# Altium footprint library Conectors.PcbLib: 137 footprints (part 9 of 9)
Each footprint in its own frame and in the unit in brackets; x right, y up, seen from the top. Pads: shape width x height; smd on the part's side, far side on the other; paste and mask are expansions set on the pad; w line width, h text height; cw(c..) or ccw(c..) is an arc to the next point about the centre after c.
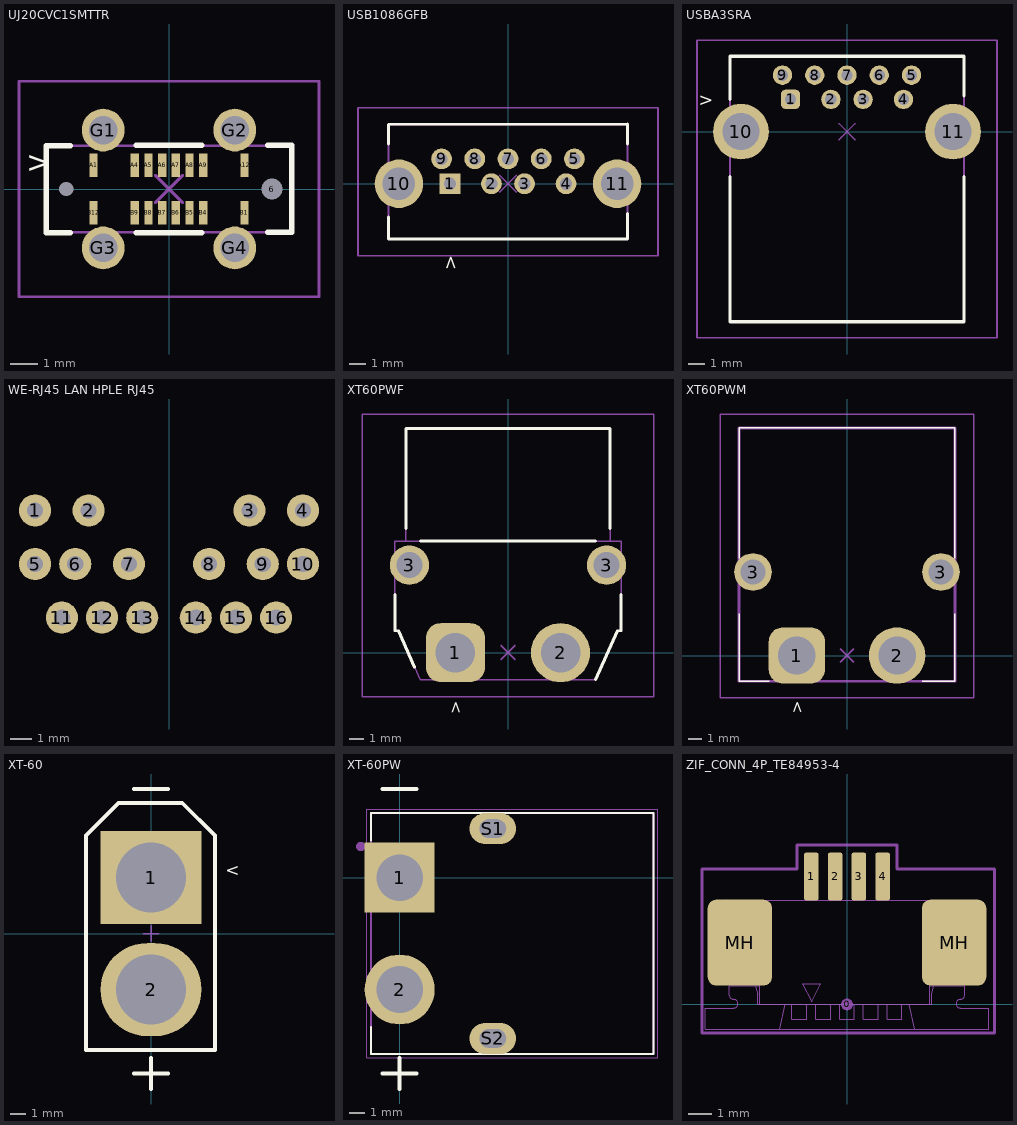
[diagram p8: the footprints below, top view; thin cyan lines are the x and y axes]

## UJ20CVC1SMTTR [mm]
pads (22):
  round 0.26 hole 0.52 unplated: 5(-3.75,0)
  round 0.385 hole 0.77 unplated: 6(3.75,0)
  rect 0.3x0.87 smd: A1(-2.75,0.865) A4(-1.25,0.865) A5(-0.75,0.865) A6(-0.25,0.865) A7(0.25,0.865) A8(0.75,0.865) A9(1.25,0.865) A12(2.75,0.865) B1(2.75,-0.865) B4(1.25,-0.865) B5(0.75,-0.865) B6(0.25,-0.865) B7(-0.25,-0.865) B8(-0.75,-0.865) B9(-1.25,-0.865) B12(-2.75,-0.865)
  round 1.56 hole 1.04: G1(-2.4,2.15) G2(2.4,2.15) G3(-2.4,-2.15) G4(2.4,-2.15)
Top Overlay:
  lines w0.2: -3.6,-1.6 -4.47,-1.6 -4.47,1.58 -3.6,1.58 ; -1.2,-1.6 1.2,-1.6 ; -1.2,1.6 1.2,1.6 ; 3.6,-1.58 4.47,-1.58 4.47,1.6 3.6,1.6
  text ".Silk" at -2.167,4.073 h3
  text ">" at -5.2,0.6 h0.8
Mechanical 13:
  lines w0.1: -4.47,-1.58 -4.47,1.58 4.47,1.58 4.47,-1.58 -4.47,-1.58
Mechanical 15:
  lines w0.1: -0.5,-0.5 0.5,0.5 ; -0.5,0.5 0.5,-0.5 ; -5.47,-3.93 -5.47,3.93 5.47,3.93 5.47,-3.93 -5.47,-3.93
3D body "UJ20-C-V-C-1-SMT-TR.stp": height 6.5, standoff -0.95, extent -4.47,-2.3 4.47,2.3

## USB1086GFB [mm]
pads (11):
  rect 1.251x1.251 hole 0.73: 1(-3.5,0)
  round 1.251 hole 0.73: 2(-1,0) 3(1,0) 4(3.5,0) 5(4,1.5) 6(2,1.5) 7(0,1.5) 8(-2,1.5) 9(-4,1.5)
  round 2.925 hole 1.95: 10(-6.57,0) 11(6.57,0)
Top Overlay:
  lines w0.2: -7.2,-2 -7.2,-3.33 7.2,-3.33 7.2,-1.8 ; -7.2,2.4 -7.2,3.57 7.2,3.6 7.2,2.4
  text ".Silk" at -1.667,-5.927 h3
  text ">" at -3.1,-5.2 h0.8
Mechanical 13:
  lines w0.1: -7.2,-3.33 -7.2,3.57 7.2,3.57 7.2,-3.33 -7.2,-3.33
Mechanical 15:
  lines w0.1: -0.5,-0.5 0.5,0.5 ; -0.5,0.5 0.5,-0.5 ; -9.033,-4.33 -9.033,4.57 9.033,4.57 9.033,-4.33 -9.033,-4.33
3D body "USB1086-GF-B.stp": height 14.9, standoff -4, extent -7.65,-3.33 7.65,3.57

## USBA3SRA [mm]
pads (11):
  rrect50% 1.2x1.2 hole 0.7: 1(-3.5,2)
  round 1.2 hole 0.7: 2(-1,2) 3(1,2) 4(3.5,2) 5(4,3.5) 6(2,3.5) 7(0,3.5) 8(-2,3.5) 9(-4,3.5)
  round 3.45 hole 2.3: 10(-6.57,0) 11(6.57,0)
Top Overlay:
  lines w0.2: -7.25,-2.78 -7.25,-11.78 7.25,-11.78 7.25,-2.78 ; -7.25,2 -7.25,4.67 7.25,4.67 7.25,2.22
  text ".Silk" at 2.167,8.627 h3
  text ">" at -9.2,1.6 h0.8
Mechanical 13:
  lines w0.1: -7.25,-11.78 7.25,-11.78 7.25,4.67 -7.25,4.67 -7.25,-11.78
Mechanical 15:
  lines w0.1: -0.5,-0.5 0.5,0.5 ; -0.5,0.5 0.5,-0.5 ; -9.295,-12.78 9.295,-12.78 9.295,5.67 -9.295,5.67 -9.295,-12.78
3D body "USB-A3-S-RA.stp": height 7.66, standoff -3.26, extent -7.8,-11.78 7.8,4.67

## WE-RJ45 LAN HPLE RJ45 [mil] "WE-RJ45 LAN HPLE RJ45 LAN Transformer"
pads (16):
  round 60 hole 30: 1(-250,575) 2(-150,575) 3(150,575) 4(250,575) 5(-250,475) 6(-175,475) 7(-75,475) 8(75,475) 9(175,475) 10(250,475) 11(-200,375) 12(-125,375) 13(-50,375) 14(50,375) 15(125,375) 16(200,375)
3D body "User Library-WE-RJ45 LAN HPLE RJ45 LAN Transformer_799111614_WurthElektronik.step": height 586.61, standoff -157.48, extent -391.14,-650 391.14,650

## XT60PWF [mm]
pads (4):
  rrect50% 4.05x4.05 hole 2.7: 1(-3.6,0)
  round 4.05 hole 2.7: 2(3.6,0)
  round 2.7 hole 1.8: 3(-6.75,6) 3(6.75,6)
Top Overlay:
  lines w0.2: -7.75,4 -7.75,1.5 -7.5,1.5 -6.4,-1 ; -7,8.5 -7,15.35 7,15.35 7,8.5 ; -6,7.65 6,7.65 ; 6,-1.85 7.5,1.5 7.75,1.5 7.75,4
  text ">" at -3.2,-4.2 h0.8
  text ".Silk" at -2.167,-5.127 h3
Mechanical 13:
  lines w0.1: -7,7.65 -7,15.35 7,15.35 7,7.65 ; -7.75,1.5 -7.75,7.65 7.75,7.65 7.75,5 7.75,3.5 7.75,1.5 7.5,1.5 6,-1.85 1,-1.85 -6,-1.85 -7.5,1.5 -7.75,1.5
Mechanical 15:
  lines w0.1: -0.5,-0.5 0.5,0.5 ; -0.5,0.5 0.5,-0.5 ; -10,-3.025 -10,16.35 10,16.35 10,-3.025 -10,-3.025
3D body "XT60PW-F.stp": height 8.37, standoff -2.58, extent -7.75,-1.94 7.75,15.26

## XT60PWM [mm]
pads (4):
  rrect50% 4.05x4.05 hole 2.7: 1(-3.6,0)
  round 4.05 hole 2.7: 2(3.6,0)
  round 2.7 hole 1.8: 3(-6.75,6) 3(6.75,6)
Top Overlay:
  lines w0.1: -7.75,3 -7.75,-1.85 -5.6,-1.85 ; -7.75,7 -7.75,16.35 7.75,16.35 7.75,7 ; 5.4,-1.85 7.75,-1.85 7.75,3
  text ".Silk" at -2.167,-5.127 h3
  text ">" at -3.2,-4.2 h0.8
Mechanical 13:
  lines w0.2: -7.75,-1.85 -7.75,16.35 7.75,16.35 7.75,-1.85 -7.75,-1.85
Mechanical 15:
  lines w0.1: -0.5,-0.5 0.5,0.5 ; -0.5,0.5 0.5,-0.5 ; -9.1,-3.025 -9.1,17.35 9.1,17.35 9.1,-3.025 -9.1,-3.025
3D body "XT60PW-M.stp": height 8.44, standoff -2.51, extent -7.95,-1.98 7.95,16.298

## XT-60 [mm]
pads (2):
  rect 6.5x6 hole 4.5: 1(0,3.6)
  oval 6.5x6 hole 4.5: 2(0,-3.6)
Top Overlay:
  lines w0.25: -1.1,-9 1.1,-9 ; -1.1,9.3 1.1,9.3 ; 0,-10 0,-8 ; -4.2,-7.5 -4.2,6.3 -2.1,8.4 2,8.4 4.1,6.3 4.1,-7.5 -4.2,-7.5
  text ">" at 5.7,4.4 h0.8
  text ".Silk" at -5.073,-1.567 h3
Mechanical 15:
  lines w0.1: -0.5,0 0.5,0 ; 0,-0.5 0,0.5
3D body "XT60 male.step": height 20, standoff -1.2, extent -4.1,-7.55 4.05,8.35

## XT-60PW [mm]
pads (4):
  rect 4.5x4.5 hole 3: 1(0,0)
  round 4.5 hole 3: 2(0,-7.2)
  oval 3x2 hole 1.2 slot 1.7 at 0 deg: S1(6,3.15) S2(6,-10.35)
Top Overlay:
  lines w0.127: -1.85,-9.6 -1.85,-11.35 16.35,-11.35 16.35,4.15 -1.85,4.15 -1.85,2.4
  lines w0.25: -1.1,-12.6 1.1,-12.6 ; -1.1,5.7 1.1,5.7 ; 0,-13.6 0,-11.6
Mechanical 13:
  circle w0.3: c-2.5,2 r0.15
  lines w0.127: -1.85,-11.35 -1.85,4.15 16.35,4.15 16.35,-11.35 -1.85,-11.35
Mechanical 15:
  lines w0.05: -2.1,-11.6 16.6,-11.6 16.6,4.4 -2.1,4.4 -2.1,-11.6
3D body "XT60IPW.step": height 8.2, standoff -2.75, extent -1.3,-11.25 16.3,4.25

## ZIF_CONN_4P_TE84953-4 [mm] "TE Connectivity 4-pin ZIF connector"
height 2.74
pads (7):
  round 0.5 on Mech15: 0(0,0)
  rrect25% 0.61x2 smd: 1(-1.5,5.375) 2(-0.5,5.375) 3(0.5,5.375) 4(1.5,5.375)
  rrect25% 2.7x3.6 smd: MH(-4.5,2.6) MH(4.5,2.6)
Mechanical 13:
  lines w0.05: -4.56,3.1 -3.93,3.1 ; -4.56,4.37 -4.56,0.87 -3.67,0.87 -3.67,0 ; -4.28,4.37 -4.18,3.997 -4.18,3.1 ; -4.18,0.86 -4.18,0.87 ; -3.982,0.87 -3.982,0.86 -5.072,0.86 cw(c-5.072,0.96) -5.172,0.96 -5.172,1.261 cw(c-5.072,1.261) -5.072,1.361 -4.762,1.361 ccw(c-4.762,1.461) -4.662,1.461 -4.662,1.763 ccw(c-4.762,1.763) -4.762,1.863 -5.072,1.863 cw(c-5.072,1.963) -5.172,1.963 -5.172,2.264 cw(c-5.072,2.264) -5.072,2.364 -4.762,2.364 ccw(c-4.762,2.464) -4.662,2.464 -4.662,2.766 ccw(c-4.762,2.766) -4.762,2.866 -5.072,2.866 cw(c-5.072,2.966) -5.172,2.966 -5.172,3.267 cw(c-5.072,3.267) -5.072,3.367 -4.762,3.367 ccw(c-4.762,3.467) -4.662,3.467 -4.662,3.769 ccw(c-4.762,3.769) -4.762,3.869 -5.072,3.869 cw(c-5.072,3.969) -5.172,3.969 -5.172,4.27 cw(c-5.072,4.27) -5.072,4.37 5.072,4.37 cw(c5.072,4.27) 5.172,4.27 5.172,3.969 cw(c5.072,3.969) 5.072,3.869 4.762,3.869 ccw(c4.762,3.769) 4.662,3.769 4.662,3.467 ccw(c4.762,3.467) 4.762,3.367 5.072,3.367 cw(c5.072,3.267) 5.172,3.267 5.172,2.966 cw(c5.072,2.966) 5.072,2.866 4.762,2.866 ccw(c4.762,2.766) 4.662,2.766 4.662,2.464 ccw(c4.762,2.464) 4.762,2.364 5.072,2.364 cw(c5.072,2.264) 5.172,2.264 5.172,1.963 cw(c5.072,1.963) 5.072,1.863 4.762,1.863 ccw(c4.762,1.763) 4.662,1.763 4.662,1.461 ccw(c4.762,1.461) 4.762,1.361 5.072,1.361 cw(c5.072,1.261) 5.172,1.261 5.172,0.96 cw(c5.072,0.96) 5.072,0.86 4.232,0.86 4.229,0.87 ; -3.93,0.87 -3.93,3.997 -3.83,4.37 ; -3.846,0.79 -3.75,0.43 -3.75,0 3.55,0 3.55,0.43 3.646,0.79 ; -3.67,0.79 -4.94,0.79 -4.94,0.39 ccw(c-4.76,0.39) -4.76,0.21 cw(c-4.76,0.03) -4.76,-0.15 -5.96,-0.15 -5.96,-1.04 5.96,-1.04 5.96,-0.15 4.76,-0.15 cw(c4.76,0.03) 4.76,0.21 ccw(c4.76,0.39) 4.94,0.39 4.94,0.79 3.47,0.79 ; -2.82,-1.04 -2.59,0 ; -2.311,0 -2.311,-0.63 -1.691,-0.63 -1.691,0 ; -1.596,4.37 -1.596,5.51 -1.396,5.51 -1.396,4.37 ; -1.596,4.88 -1.396,4.88 ; -1.596,5.01 -1.396,5.01 ; -1.596,5.38 -1.396,5.38 ; -1.311,0 -1.311,-0.63 -0.691,-0.63 -0.691,0 ; -0.596,4.37 -0.596,5.51 -0.396,5.51 -0.396,4.37 ; -0.596,4.88 -0.396,4.88 ; -0.596,5.01 -0.396,5.01 ; -0.596,5.38 -0.396,5.38 ; -0.31,0 -0.31,-0.63 0.309,-0.63 0.309,0 ; 0.405,4.37 0.405,5.51 0.604,5.51 0.604,4.37 ; 0.405,4.88 0.604,4.88 ; 0.405,5.01 0.604,5.01 ; 0.405,5.38 0.604,5.38 ; 0.69,0 0.69,-0.63 1.309,-0.63 1.309,0 ; 1.405,4.37 1.405,5.51 1.605,5.51 1.605,4.37 ; 1.405,4.88 1.605,4.88 ; 1.405,5.01 1.605,5.01 ; 1.405,5.38 1.605,5.38 ; 1.69,0 1.69,-0.63 2.31,-0.63 2.31,0 ; 2.59,0 2.82,-1.04 ; 3.47,0 3.47,0.87 4.56,0.87 4.56,4.37 ; 3.83,0.87 3.93,1.243 3.93,4.37 ; 3.93,2.14 4.18,2.14 4.18,1.243 4.28,0.87 ; 4.18,1.92 4.56,1.92 ; -1.871,0.87 -1.49,0.11 -1.111,0.87 -1.871,0.87
Mechanical 15:
  lines w0.127: -6.1,-1.2 6.2,-1.2 6.2,5.7 2.1,5.7 2.1,6.7 -2.1,6.7 -2.1,5.7 -6.1,5.7 -6.1,-1.2
3D body "ZIF Conn TE 84953-4.STEP": height 2.58, standoff 0, extent -5.96,-1.04 5.96,5.51